# Altium schematic symbol library IDC_Connector.SchLib: 4 symbols
Pins are listed as number, name and electrical type; pins without a type are passive.

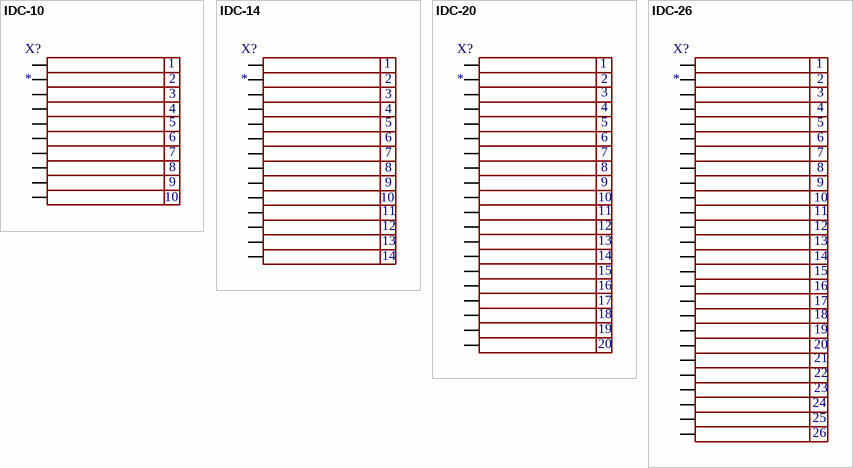
[diagram p0: symbols IDC-10 to IDC-26]

## IDC-10
designator X?
footprint IDC10
pins: 1, 2, 3, 4, 5, 6, 7, 8, 9, 10

## IDC-14
designator X?
footprint IDC14
pins: 1, 2, 3, 4, 5, 6, 7, 8, 9, 10, 11, 12, 13, 14

## IDC-20
designator X?
footprint IDC20
pins: 1, 2, 3, 4, 5, 6, 7, 8, 9, 10, 11, 12, 13, 14, 15, 16, 17, 18, 19, 20

## IDC-26
designator X?
footprint IDC26-Clamp
pins: 1, 2, 3, 4, 5, 6, 7, 8, 9, 10, 11, 12, 13, 14, 15, 16, 17, 18, 19, 20, 21, 22, 23, 24, 25, 26